# Altium footprint library Connector Footprints.PcbLib: 89 footprints (part 1 of 6)
Each footprint in its own frame and in the unit in brackets; x right, y up, seen from the top. Pads: shape width x height; smd on the part's side, far side on the other; paste and mask are expansions set on the pad; w line width, h text height; cw(c..) or ccw(c..) is an arc to the next point about the centre after c.
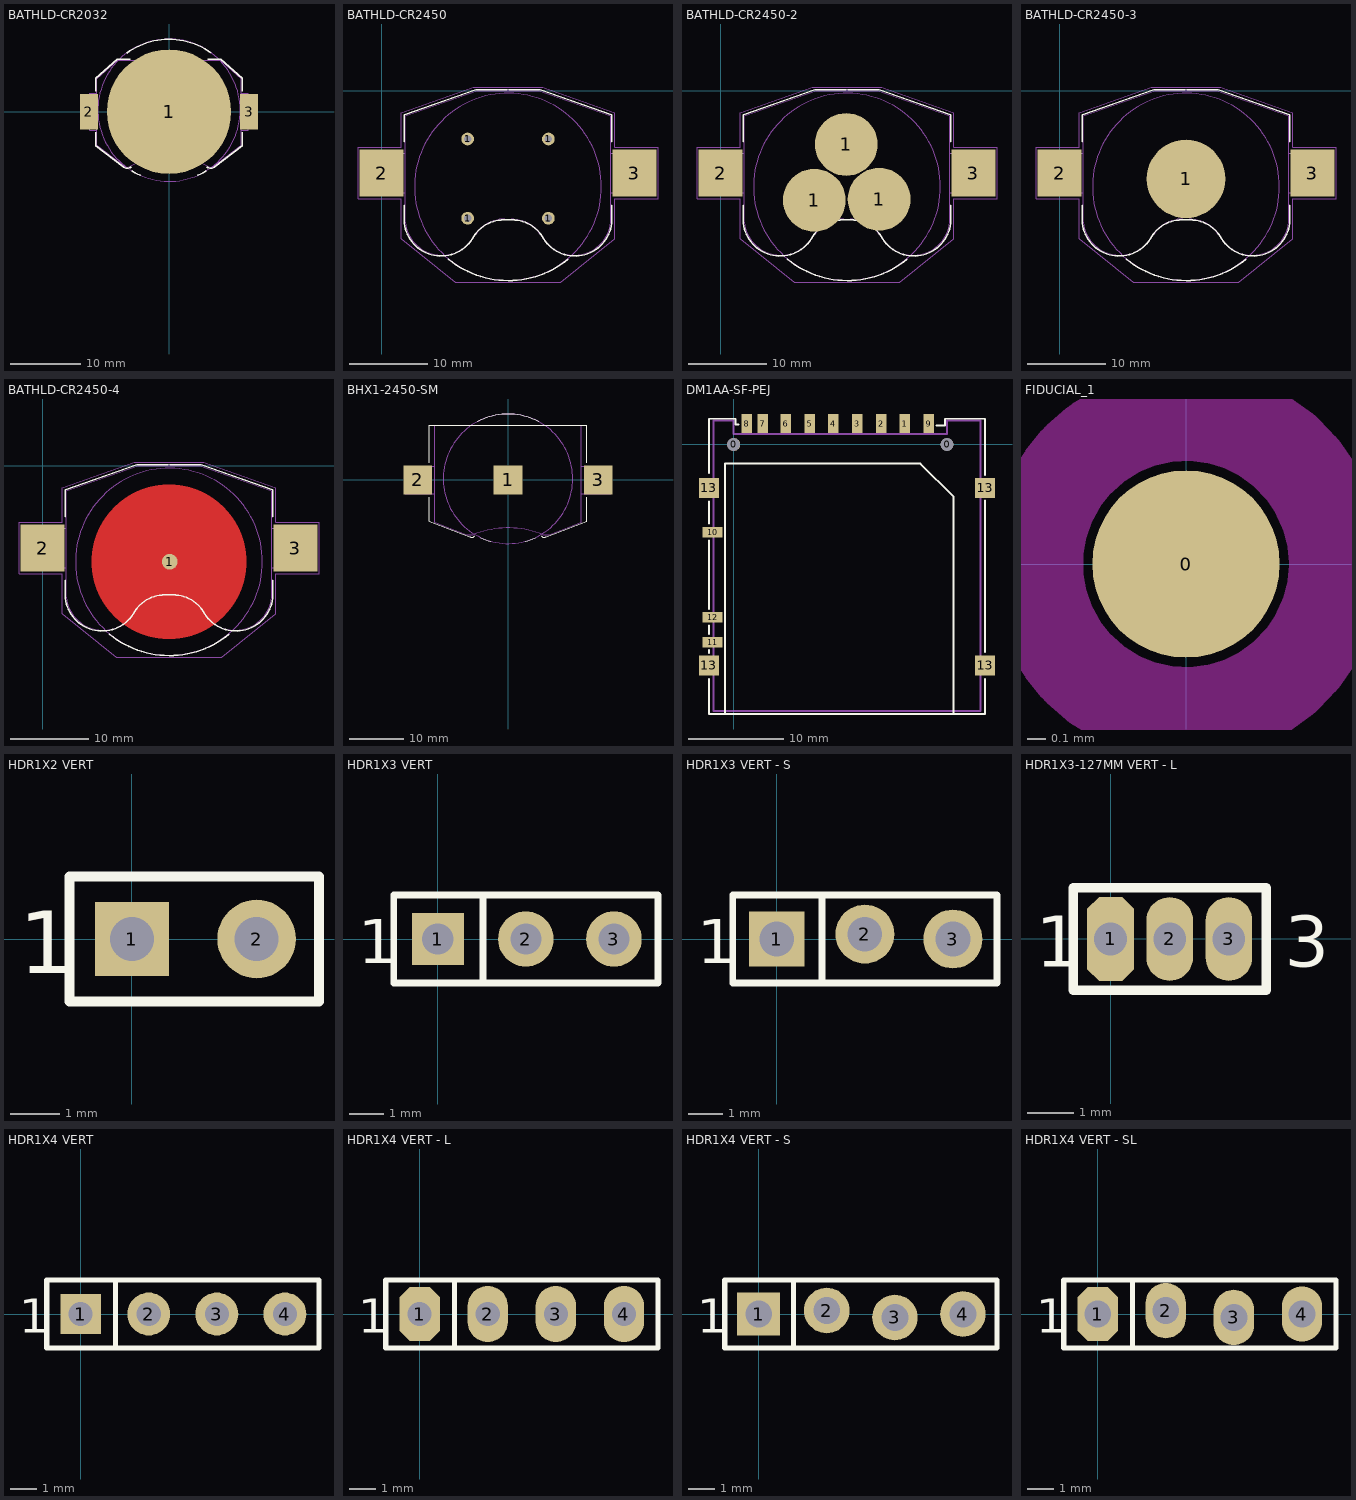
[diagram p0: the footprints below, top view; thin cyan lines are the x and y axes]

## BATHLD-CR2032 [mm] "LINX CR2032 BATTERY HOLDER"
height 4.3
pads (3):
  round 17.78 smd: 1(0,0)
  rect 2.54x5.08 smd: 2(-11.43,0) 3(11.43,0)
Top Overlay:
  lines w0.2: -10.466,-2.94 -10.466,-4.853 -6.545,-7.854 ; -10.466,2.94 -10.466,4.785 -7.425,7.475 -5.515,7.476 ; -6.545,-7.854 ccw(c-5.97,-7.277) -5.561,-7.982 cw(c0.254,-19.539) -5.394,-7.899 ; -6.041,8.364 cw(c0,0.19) 5.977,8.411 ; -5.313,-8.454 ccw(c0,0.215) -4.054,-9.109 ; 4.054,-9.109 ccw(c0,0.215) 5.313,-8.454 ; 5.394,-7.899 cw(c-0.254,-19.539) 5.561,-7.982 ccw(c5.97,-7.277) 6.545,-7.854 ; 5.515,7.476 7.425,7.475 10.466,4.785 10.466,2.94 ; 6.545,-7.854 10.466,-4.853 ; 10.466,-4.852 10.466,-2.94
Mechanical 13:
  circle w0.1: c0,0.215 r10.168
  lines w0.1: -10.326,-2.625 -11.316,-2.625 -11.316,-0.525 -10.316,-0.525 ; -10.316,0.525 -11.316,0.525 -11.316,2.625 -10.316,2.625 ; -6.038,-8.055 cw(c-0.031,-19.513) 6.013,-8.074 ; -6.038,-8.056 -10.316,-4.775 -10.316,4.725 -7.366,7.325 7.366,7.325 10.316,4.725 10.316,-4.775 6.013,-8.075 ; 10.316,-0.525 11.316,-0.525 11.316,-2.625 10.326,-2.625 ; 10.316,0.525 11.316,0.525 11.316,2.625 10.316,2.625
Mechanical 15:
  lines w0.1: -0.5,0 0.5,0 ; 0,-0.5 0,0.5
3D body: height 4, standoff 0, extent -10.148,-9.872 10.148,10.383
3D body: height 4.3, standoff 0, extent -10.317,-8.075 10.317,7.326

## BATHLD-CR2450 [mil] "Generic CR2450 Battery Holder"
height 244.09
pads (6):
  round 64 hole 37: 1(431.5,-640) 1(431.5,-242.56) 1(836.22,-640) 1(836.22,-242.56)
  rect 220.47x236.22 smd: 2(0,-413.39) 3(1267.72,-413.39)
Top Overlay:
  lines w7.87: 114.17,-574.8 114.17,-665.36 ccw(c298.5,-643.75) 461.67,-732.18 cw(c612.2,-825.6) 614.19,-648.44 653.53,-648.44 cw(c655.51,-825.6) 806.05,-732.19 ccw(c969.22,-643.75) 1153.54,-665.36 1153.54,-574.8 ; 114.17,-255.91 114.17,-122.05 472.44,3.94 629.92,3.94 ; 335,-845 ccw(c635.21,-480.2) 933.84,-846.28 ; 637.8,3.94 795.28,3.94 1153.54,-122.05 1153.54,-255.91
Mechanical 13:
  circle w3.94: c633.86,-482.28 r468.5
  lines w3.94: 118.11,-511.81 -78.74,-511.81 -78.74,-314.96 118.11,-314.96 ; 649.61,-644.53 cw(c651.62,-821.63) 802.11,-728.25 ccw(c965.28,-639.82) 1149.61,-661.42 1149.61,-125.98 791.34,0 633.86,0 476.38,0 118.11,-125.98 118.11,-661.42 ccw(c302.44,-639.82) 465.6,-728.25 cw(c616.14,-821.66) 618.12,-644.51 651.62,-644.51 ; 1149.61,-511.81 1346.46,-511.81 1346.46,-314.96 1149.61,-314.96
Mechanical 15:
  lines w3.94: -118.11,-543.31 -118.11,-283.46 98.43,-283.46 98.43,-110.24 460.63,15.75 633.86,15.75 807.09,15.75 1169.29,-110.24 1169.29,-283.46 1385.83,-283.46 1385.83,-543.31 1169.29,-543.31 1169.29,-744.09 899.41,-960 625.35,-960 368.31,-960 98.43,-744.09 98.43,-543.31 -118.11,-543.31
3D body: height 244.09, standoff 0, extent 118.11,-825.75 1149.61,0
3D body: height 196.85, standoff 0, extent 162.35,-950.99 1105.36,-9.84

## BATHLD-CR2450-2 [mm] "Generic CR2450 Battery Holder"
height 6.2
pads (5):
  round 8 smd: 1(11.938,-13.97) 1(16.002,-6.858) 1(20.193,-13.843)
  rect 5.6x6 smd: 2(0,-10.5) 3(32.2,-10.5)
Top Overlay:
  lines w0.2: 2.9,-14.6 2.9,-16.9 ccw(c7.582,-16.351) 11.726,-18.597 cw(c15.55,-20.97) 15.6,-16.47 16.6,-16.47 cw(c16.65,-20.97) 20.474,-18.598 ccw(c24.618,-16.351) 29.3,-16.9 29.3,-14.6 ; 2.9,-6.5 2.9,-3.1 12,0.1 16,0.1 ; 8.509,-21.463 ccw(c16.134,-12.197) 23.72,-21.496 ; 16.2,0.1 20.2,0.1 29.3,-3.1 29.3,-6.5
Mechanical 13:
  circle w0.1: c16.1,-12.25 r11.9
  lines w0.1: 3,-13 -2,-13 -2,-8 3,-8 ; 16.5,-16.371 cw(c16.551,-20.869) 20.374,-18.497 ccw(c24.518,-16.251) 29.2,-16.8 29.2,-3.2 20.1,0 16.1,0 12.1,0 3,-3.2 3,-16.8 ccw(c7.682,-16.251) 11.826,-18.497 cw(c15.65,-20.87) 15.7,-16.37 16.551,-16.37 ; 29.2,-13 34.2,-13 34.2,-8 29.2,-8
Mechanical 15:
  lines w0.1: -3,-13.8 -3,-7.2 2.5,-7.2 2.5,-2.8 11.7,0.4 16.1,0.4 20.5,0.4 29.7,-2.8 29.7,-7.2 35.2,-7.2 35.2,-13.8 29.7,-13.8 29.7,-18.9 22.845,-24.384 15.884,-24.384 9.355,-24.384 2.5,-18.9 2.5,-13.8 -3,-13.8
3D body: height 6.2, standoff 0, extent 3,-20.974 29.2,0
3D body: height 5, standoff 0, extent 4.124,-24.155 28.076,-0.25

## BATHLD-CR2450-3 [mm] "Generic CR2450 Battery Holder"
height 6.2
pads (3):
  round 10 smd: 1(16.1,-11.25)
  rect 5.6x6 smd: 2(0,-10.5) 3(32.2,-10.5)
Top Overlay:
  lines w0.2: 2.9,-14.6 2.9,-16.9 ccw(c7.582,-16.351) 11.726,-18.597 cw(c15.55,-20.97) 15.6,-16.47 16.6,-16.47 cw(c16.65,-20.97) 20.474,-18.598 ccw(c24.618,-16.351) 29.3,-16.9 29.3,-14.6 ; 2.9,-6.5 2.9,-3.1 12,0.1 16,0.1 ; 8.509,-21.463 ccw(c16.134,-12.197) 23.72,-21.496 ; 16.2,0.1 20.2,0.1 29.3,-3.1 29.3,-6.5
Mechanical 13:
  circle w0.1: c16.1,-12.25 r11.9
  lines w0.1: 3,-13 -2,-13 -2,-8 3,-8 ; 16.5,-16.371 cw(c16.551,-20.869) 20.374,-18.497 ccw(c24.518,-16.251) 29.2,-16.8 29.2,-3.2 20.1,0 16.1,0 12.1,0 3,-3.2 3,-16.8 ccw(c7.682,-16.251) 11.826,-18.497 cw(c15.65,-20.87) 15.7,-16.37 16.551,-16.37 ; 29.2,-13 34.2,-13 34.2,-8 29.2,-8
Mechanical 15:
  lines w0.1: -3,-13.8 2.5,-13.8 2.5,-18.9 9.355,-24.384 15.884,-24.384 22.845,-24.384 29.7,-18.9 29.7,-13.8 35.2,-13.8 35.2,-7.2 29.7,-7.2 29.7,-2.8 20.5,0.4 16.1,0.4 11.7,0.4 2.5,-2.8 2.5,-7.2 -3,-7.2 -3,-13.8
3D body: height 5, standoff 0, extent 4.124,-24.155 28.076,-0.25
3D body: height 6.2, standoff 0, extent 3,-20.974 29.2,0

## BATHLD-CR2450-4 [mm] "Generic CR2450 Battery Holder"
height 6.2
pads (3):
  round 2 smd: 1(16.2,-12.25)
  rect 5.6x6 smd: 2(0,-10.5) 3(32.2,-10.5)
Top Layer:
  circle w19.5: c16.1,-12.25 r0.1
Top Overlay:
  lines w0.2: 2.9,-14.6 2.9,-16.9 ccw(c7.582,-16.351) 11.726,-18.597 cw(c15.55,-20.97) 15.6,-16.47 16.6,-16.47 cw(c16.65,-20.97) 20.474,-18.598 ccw(c24.618,-16.351) 29.3,-16.9 29.3,-14.6 ; 2.9,-6.5 2.9,-3.1 12,0.1 16,0.1 ; 8.509,-21.463 ccw(c16.134,-12.197) 23.72,-21.496 ; 16.2,0.1 20.2,0.1 29.3,-3.1 29.3,-6.5
Mechanical 13:
  circle w0.1: c16.1,-12.25 r11.9
  lines w0.1: 3,-13 -2,-13 -2,-8 3,-8 ; 16.5,-16.371 cw(c16.551,-20.869) 20.374,-18.497 ccw(c24.518,-16.251) 29.2,-16.8 29.2,-3.2 20.1,0 16.1,0 12.1,0 3,-3.2 3,-16.8 ccw(c7.682,-16.251) 11.826,-18.497 cw(c15.65,-20.87) 15.7,-16.37 16.551,-16.37 ; 29.2,-13 34.2,-13 34.2,-8 29.2,-8
Mechanical 15:
  lines w0.1: -3,-13.8 -3,-7.2 2.5,-7.2 2.5,-2.8 11.7,0.4 16.1,0.4 20.5,0.4 29.7,-2.8 29.7,-7.2 35.2,-7.2 35.2,-13.8 29.7,-13.8 29.7,-18.9 22.845,-24.384 15.884,-24.384 9.355,-24.384 2.5,-18.9 2.5,-13.8 -3,-13.8
3D body: height 6.2, standoff 0, extent 3,-20.974 29.2,0
3D body: height 5, standoff 0, extent 4.124,-24.155 28.076,-0.25

## BHX1-2450-SM [mm] "MPD CR2450 Battery Holder with Plastic Insert"
height 5.92
pads (3):
  rect 5.3x5.3 smd: 1(0,0) 2(-16.73,0) 3(16.73,0)
Top Overlay:
  lines w0.2: -14.605,-3.175 -14.605,-7.62 -7.056,-10.523 ; -14.605,3.211 -14.605,10.16 14.605,10.16 14.605,3.211 ; -7.112,-10.502 ccw(c-6.704,-9.797) -6.129,-10.374 ; -5.693,10.754 cw(c0,0.19) 5.68,10.761 ; -5.029,-10.68 ccw(c0,0.215) -3.156,-11.362 ; 3.156,-11.362 ccw(c0,0.215) 5.029,-10.68 ; 6.129,-10.374 ccw(c6.704,-9.797) 7.112,-10.502 ; 7.056,-10.523 14.605,-7.62 14.605,-3.175
Mechanical 13:
  circle w0.1: c0,0.215 r12
  lines w0.1: -13.589,-2.54 -19.05,-2.54 -19.05,2.54 -13.589,2.54 ; 6.477,-10.16 7.62,-10.16 13.589,-7.874 13.589,10.16 -13.589,10.16 -13.589,-3.365 -13.589,-7.874 -7.62,-10.16 -6.477,-10.16 cw(c0.009,-26.123) 6.48,-10.154 ; 13.589,-2.54 19.05,-2.54 19.05,2.54 13.589,2.54
Mechanical 15:
  lines w0.1: -0.5,0 0.5,0 ; 0,-0.5 0,0.5
3D body: height 5.8, standoff 0, extent -11.976,-11.905 11.976,12
3D body: height 5.92, standoff 0, extent -13.589,-10.16 13.589,10.16

## DM1AA-SF-PEJ [mm] "SD Card Holder Hirose"
height 2.9
pads (18):
  round 1.35 hole 1.35 unplated: 0(0,0) 0(22.4,0)
  rect 1.1x2 smd: 1(17.975,2.2) 2(15.475,2.2) 3(12.975,2.2) 4(10.475,2.2) 5(7.975,2.2) 6(5.475,2.2) 7(3.05,2.2) 8(1.35,2.2) 9(20.475,2.2)
  rect 2.1x1.1 smd: 10(-2.2,-9.2) 11(-2.2,-20.75) 12(-2.2,-18.15)
  rect 2.1x2.1 smd: 13(-2.6,-23.2) 13(-2.6,-4.55) 13(26.4,-23.2) 13(26.4,-4.55)
Top Overlay:
  lines w0.2: -2.6,-24.6 -2.6,-28.3 26.4,-28.3 26.4,-24.6 ; -2.6,-21.9 -2.6,-21.6 ; -2.6,-19.9 -2.6,-19 ; -2.6,-17.3 -2.6,-10.1 ; -2.6,-8.3 -2.6,-6 ; -2.6,-3 -2.6,2.7 0.2,2.7 0.2,2.1 0.5,2.1 ; -0.9,-28.2 -0.9,-2 11.1,-2 19.6,-2 23.1,-5.5 23.1,-28.3 ; 21.3,2 22.2,2 22.2,2.7 26.4,2.7 26.4,-3.2 ; 26.4,-21.8 26.4,-5.9
Mechanical 13:
  lines w0.2: -2.1,-24.05 -3.3,-24.05 -3.3,-22.35 -2.1,-22.35 ; -2.1,-5.4 -3.3,-5.4 -3.3,-3.7 -2.1,-3.7 ; 25.9,-24.05 27.1,-24.05 27.1,-22.35 25.9,-22.35 ; 25.9,-5.4 27.1,-5.4 27.1,-3.7 25.9,-3.7 ; -2.1,-28 -2.1,2.5 0,2.5 0,1.1 22.4,1.1 22.4,2.5 25.9,2.5 25.9,-28 -2.1,-28
3D body: height 2.9, standoff 0, extent -2.1,-28 25.9,2.5

## FIDUCIAL_1 [mm] "Fiducial Mark, Diameter: 1mm, Keepout: 2mm"
pads (1):
  round 1 smd paste-1 mask+0.5: 0(0,0)
Keep-Out Layer:
  circle w0.5: c0,0 r0.8

## HDR1X2 VERT [mm] "Connector; Header; 2 Position"
pads (2):
  rect 1.5x1.5 hole 0.9: 1(0,0)
  round 1.6 hole 0.9: 2(2.54,0)
Top Overlay:
  lines w0.2: -1.27,-1.27 -1.27,1.27 3.81,1.27 3.81,-1.27 -1.27,-1.27
  text "1" at -2.3,-0.7 h1.27
3D body "61300211121.stp": height 8.77, standoff -2.77, extent -1.265,-1.27 3.815,1.27

## HDR1X3 VERT [mm] "Connector; Header; 3 Position; Vertical Mount"
pads (3):
  rect 1.5x1.5 hole 0.9: 1(0,0)
  round 1.6 hole 0.9: 2(2.54,0) 3(5.08,0)
Top Overlay:
  lines w0.2: 1.3,-1.27 1.3,1.27 ; -1.27,-1.27 6.35,-1.27 6.35,1.27 -1.27,1.27 -1.27,-1.27
  text "1" at -2.3,-0.7 h1.27
3D body "61300311121.stp": height 8.77, standoff -2.77, extent -1.27,-1.27 6.35,1.27

## HDR1X3 VERT - S [mm] "Connector; Header; 3 Position; Vertical Mount"
pads (3):
  rect 1.6x1.6 hole 1: 1(0,0)
  round 1.7 hole 1: 2(2.54,0.14) 3(5.08,0)
Top Overlay:
  lines w0.2: 1.3,-1.27 1.3,1.27 ; -1.27,-1.27 -1.27,1.27 6.35,1.27 6.35,-1.27 -1.27,-1.27
  text "1" at -2.3,-0.7 h1.27
3D body "61300311121.stp": height 8.77, standoff -2.77, extent -1.27,-1.27 6.35,1.27

## HDR1X3-127MM VERT - L [mm] "Connector; Header; 3 Position; 1.27mm Pitch;Vertical Mount"
pads (3):
  oct 1x1.8 hole 0.7: 1(0,0)
  oval 1x1.8 hole 0.7: 2(1.27,0) 3(2.54,0)
Top Overlay:
  lines w0.2: -0.8,-1.1 3.34,-1.1 3.34,1.1 -0.8,1.1 -0.8,-1.1
  text "3" at 3.74,-0.6 h1.1
  text "1" at -1.6,-0.6 h1.1

## HDR1X4 VERT [mm] "Connector; Header; 4 Position; Vertical Mount"
pads (4):
  rect 1.5x1.5 hole 0.9: 1(0,0)
  round 1.6 hole 0.9: 2(2.54,0) 3(5.08,0) 4(7.62,0)
Top Overlay:
  lines w0.2: 1.3,-1.27 1.3,1.27 ; -1.27,-1.27 -1.27,1.27 8.89,1.27 8.89,-1.27 -1.27,-1.27
  text "1" at -2.3,-0.7 h1.27
3D body "61300411121.stp": height 8.77, standoff -2.77, extent -1.28,-1.27 8.88,1.27

## HDR1X4 VERT - L [mm] "Connector; Header; 4 Position; Vertical Mount"
pads (4):
  oct 1.5x2 hole 0.9: 1(0,0)
  oval 1.5x2.1 hole 0.9: 2(2.54,0) 3(5.08,0) 4(7.62,0)
Top Overlay:
  lines w0.2: 1.3,-1.27 1.3,1.27 ; -1.27,-1.27 8.89,-1.27 8.89,1.27 -1.27,1.27 -1.27,-1.27
  text "1" at -2.3,-0.7 h1.27
3D body "61300411121.stp": height 8.77, standoff -2.77, extent -1.28,-1.27 8.88,1.27

## HDR1X4 VERT - S [mm] "Connector; Header; 4 Position; Vertical Mount"
pads (4):
  rect 1.6x1.6 hole 1: 1(0,0)
  round 1.7 hole 1: 2(2.54,0.13) 3(5.08,-0.13) 4(7.62,0)
Top Overlay:
  lines w0.2: 1.3,-1.27 1.3,1.27 ; -1.27,-1.27 8.89,-1.27 8.89,1.27 -1.27,1.27 -1.27,-1.27
  text "1" at -2.3,-0.7 h1.27
3D body "61300411121.stp": height 8.77, standoff -2.77, extent -1.28,-1.27 8.88,1.27

## HDR1X4 VERT - SL [mm] "Connector; Header; 4 Position; Vertical Mount"
pads (4):
  oct 1.5x2 hole 1: 1(0,0)
  oval 1.5x2.07 hole 1: 2(2.54,0.13) 3(5.08,-0.13) 4(7.62,0)
Top Overlay:
  lines w0.2: 1.3,-1.27 1.3,1.27 ; -1.27,-1.27 -1.27,1.27 8.89,1.27 8.89,-1.27 -1.27,-1.27
  text "1" at -2.3,-0.7 h1.27
3D body "61300411121.stp": height 8.77, standoff -2.77, extent -1.28,-1.27 8.88,1.27